# EAGLE library part FS_R6B (library mecatronica_eagle_lib)
FS-R6B 6 channels 2.4GHz digital receiver system
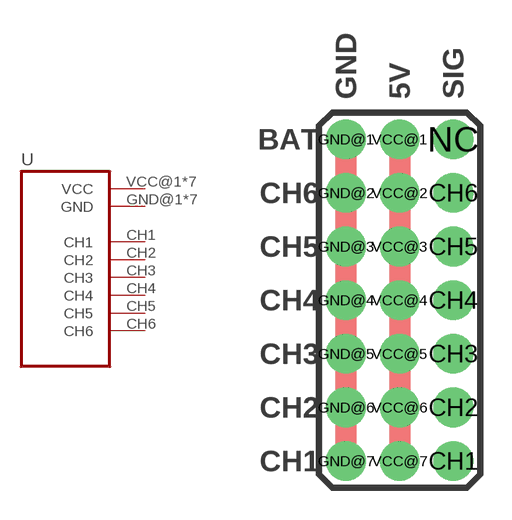
[diagram p3: symbol with the pads of FS_R6B; footprint FS_R6B]

Designator prefix -

## FS_R6B  [FS_R6B]
CH1  CH1  out
CH2  CH2  out
CH3  CH3  out
CH4  CH4  out
CH5  CH5  out
CH6  CH6  out
GND@1  GND  pwr
GND@2  GND  pwr
GND@3  GND  pwr
GND@4  GND  pwr
GND@5  GND  pwr
GND@6  GND  pwr
GND@7  GND  pwr
VCC@1  VCC  pwr
VCC@2  VCC  pwr
VCC@3  VCC  pwr
VCC@4  VCC  pwr
VCC@5  VCC  pwr
VCC@6  VCC  pwr
VCC@7  VCC  pwr

## Footprint FS_R6B (pad centres in mm)
FS-R6B 6 channels 2.4GHz digital receiver system
drill 1.016 pad 1.88: CH1 5.08,-15.24; CH2 5.08,-12.7; CH3 5.08,-10.16; CH4 5.08,-7.62; CH5 5.08,-5.08; CH6 5.08,-2.54; GND@1 0,0; GND@2 0,-2.54; GND@3 0,-5.08; GND@4 0,-7.62; GND@5 0,-10.16; GND@6 0,-12.7; GND@7 0,-15.24; NC 5.08,0; VCC@1 2.54,0; VCC@2 2.54,-2.54; VCC@3 2.54,-5.08; VCC@4 2.54,-7.62; VCC@5 2.54,-10.16; VCC@6 2.54,-12.7; VCC@7 2.54,-15.24